# Altium footprint library ROV2019V2.0。0.PcbLib: 24 footprints (part 1 of 2)
Each footprint in its own frame and in the unit in brackets; x right, y up, seen from the top. Pads: shape width x height; smd on the part's side, far side on the other; paste and mask are expansions set on the pad; w line width, h text height; cw(c..) or ccw(c..) is an arc to the next point about the centre after c.
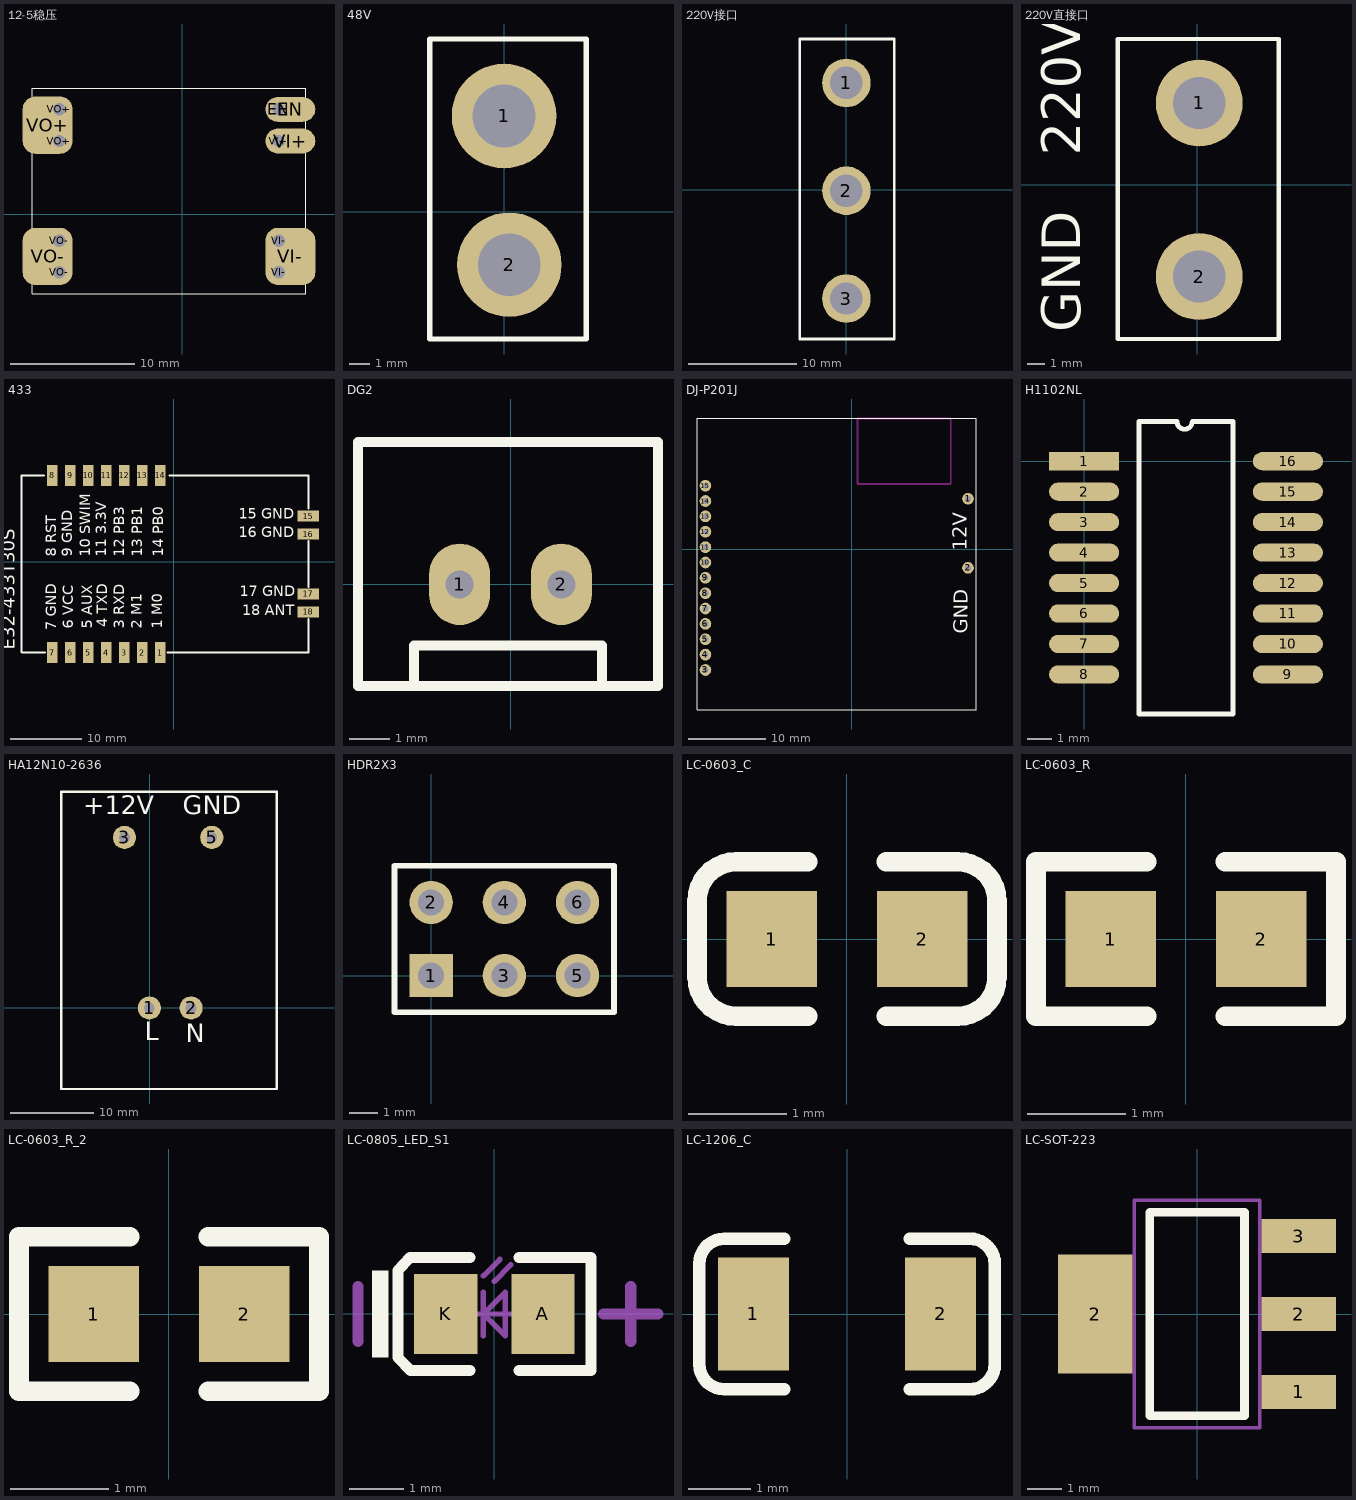
[diagram p0: the footprints below, top view; thin cyan lines are the x and y axes]

## 12-5稳压 [mm]
pads (13):
  round 2 hole 1: EN(7.75,8.44) VI+(7.75,5.9) VI-(7.75,-4.64) VI-(7.75,-2.1) VO+(-9.85,5.9) VO+(-9.85,8.44) VO-(-9.85,-4.64) VO-(-9.85,-2.1)
  oval 4x2 smd: EN(8.7,8.44) VI+(8.7,5.9)
  rrect50% 4x4.6 smd: VI-(8.7,-3.37) VO+(-10.8,7.17) VO-(-10.8,-3.37)
Top Overlay:
  lines w0.1: -12.05,-6.35 -12.05,10.15 9.95,10.15 9.95,-6.35 -12.05,-6.35

## 48V [mm]
pads (2):
  round 5 hole 3: 1(0,4.572) 2(0.254,-2.54)
Top Overlay:
  lines w0.254: -3.556,-6.096 -3.556,8.255 3.937,8.255 3.937,-6.096 -3.556,-6.096

## 220V接口 [mm]
pads (3):
  round 4.5 hole 3: 1(0,9.906) 2(0,-0.094) 3(0,-10.094)
Top Overlay:
  lines w0.254: -4.318,11.938 -4.318,13.97 4.445,13.97 4.445,-13.843 -4.318,-13.843 -4.318,12.446

## 220V直接口 [mm]
pads (2):
  round 5 hole 3: 1(0.127,4.699) 2(0.127,-5.301)
Top Overlay:
  lines w0.254: -4.572,-8.89 -4.572,8.382 4.699,8.382 4.699,-8.89 -4.572,-8.89
  text "220V" at -5.969,1.651 h3.81
  text "GND" at -5.969,-8.509 h3.81

## 433 [mm]
pads (18):
  rect 1.5x3 smd: 1(-1.905,-12.793) 2(-4.445,-12.793) 3(-6.985,-12.793) 4(-9.525,-12.793) 5(-12.065,-12.793) 6(-14.605,-12.793) 7(-17.145,-12.793) 8(-17.145,12.207) 9(-14.605,12.207) 10(-12.065,12.207) 11(-9.525,12.207) 12(-6.985,12.207) 13(-4.445,12.207) 14(-1.905,12.207)
  rect 3x1.5 smd: 15(18.975,6.477) 16(18.975,3.937) 17(18.975,-4.523) 18(18.975,-7.063)
Top Overlay:
  lines w0.254: -18.325,12.207 -21.5,12.207 -21.5,-12.718 -21.425,-12.793 -18.175,-12.793 ; -0.9,-12.793 18.95,-12.793 18.975,-12.768 18.975,-8.043 ; -0.6,12.207 18.95,12.207 18.975,12.182 18.975,7.507 ; 18.975,-3.543 18.975,2.957
  text "E32-433T30S" at -21.844,-12.407 h3.17
  text "14 PB0" at -1.016,0.762 h2.54
  text "13 PB1" at -3.937,0.762 h2.54
  text "12 PB3" at -6.477,0.762 h2.54
  text "11 3.3V" at -9.017,0.762 h2.54
  text "10 SWIM" at -11.303,0.762 h2.54
  text "9 GND" at -13.843,0.762 h2.54
  text "8 RST" at -16.129,0.762 h2.54
  text "6 VCC" at -13.716,-9.455 h2.54
  text "5 AUX" at -11.049,-9.394 h2.54
  text "4 TXD" at -8.89,-9.231 h2.54
  text "3 RXD" at -6.477,-9.412 h2.54
  text "2 M1" at -4.064,-9.415 h2.54
  text "1 M0" at -1.143,-9.412 h2.54
  text "18 ANT" at 9.652,-8.043 h2.54
  text "17 GND" at 9.271,-5.334 h2.54
  text "16 GND" at 9.144,2.957 h2.54
  text "15 GND" at 9.144,5.588 h2.54
  text "7 GND" at -16.129,-9.652 h2.54

## DG2 [mil]
pads (2):
  oval 60x80 hole 27.56: 1(-50,0) 2(50,0)
Top Overlay:
  lines w10: -95,-100 -95,-60 90,-60 90,-100 ; -150,-100 145,-100 145,140 -150,140 -150,20 -150,-100

## DJ-P201J [mil]
pads (15):
  round 60 hole 30: 1(596.69,259.68) 2(596.69,-94.65) 3(-749.76,-618.28) 4(-749.76,-539.54) 5(-749.76,-460.8) 6(-749.76,-382.06) 7(-749.76,-303.31) 8(-749.76,-224.57) 9(-749.76,-145.83) 10(-749.76,-67.09) 11(-749.76,11.65) 12(-749.76,90.39) 13(-749.76,169.13) 14(-749.76,247.87) 15(-749.76,326.61)
Top Overlay:
  lines w1: -793.07,-823 -793.07,673.06 640,673.06 640,-823 -793.07,-823
  text "GND" at 620.24,-433.39 h125
  text "12V" at 615.24,-6.82 h125
Keep-Out Layer:
  lines w10: 30,334.27 508,334.27 508,671 469,671 30,671 30,334.27

## H1102NL [mm]
pads (16):
  rect 2.92x0.76 smd: 1(0,0)
  oval 2.92x0.76 smd: 2(0,-1.27) 3(0,-2.54) 4(0,-3.81) 5(0,-5.08) 6(0,-6.35) 7(0,-7.62) 8(0,-8.89) 9(8.5,-8.89) 10(8.5,-7.62) 11(8.5,-6.35) 12(8.5,-5.08) 13(8.5,-3.81) 14(8.5,-2.54) 15(8.5,-1.27) 16(8.5,0)
Top Overlay:
  lines w0.2: 2.295,-10.541 2.295,1.651 3.873,1.651 ccw(c4.191,1.651) 4.508,1.651 6.205,1.651 6.205,-10.541 2.295,-10.541

## HA12N10-2636 [mil]
pads (4):
  round 110 hole 50: 1(-2.58,-1.54) 2(194.27,-1.54) 3(-120.69,805.54) 5(292.69,805.54)
Top Overlay:
  lines w10: -420,-385 600,-385 600,1022.08 -420,1022.08 -420,-385
  text "L" at -25,-185 h150
  text "N" at 170,-195 h150
  text "+12V" at -315,885 h150
  text "GND" at 155,885 h150

## HDR2X3 [mm]
pads (6):
  rect 1.5x1.5 hole 0.9: 1(0,0)
  round 1.5 hole 0.9: 2(0,2.54) 3(2.54,0) 4(2.54,2.54) 5(5.08,0) 6(5.08,2.54)
Top Overlay:
  lines w0.2: 1.482,-1.27 6.35,-1.27 ; 6.35,-1.27 -1.27,-1.27 -1.27,3.81 6.35,3.81 6.35,-1.27

## LC-0603_C [mm]
pads (2):
  rect 0.93x0.98 smd: 1(-0.77,0) 2(0.77,0)
Top Overlay:
  lines w0.2: -0.4,-0.79 -1.135,-0.79 cw(c-1.135,-0.39) -1.535,-0.39 -1.535,0.39 cw(c-1.135,0.39) -1.135,0.79 -0.4,0.79 ; 0.4,-0.79 1.135,-0.79 ccw(c1.135,-0.39) 1.535,-0.39 1.535,0.39 ccw(c1.135,0.39) 1.135,0.79 0.4,0.79
3D body "User Library-0603 SMD Capacitor.STEP": height 0.3, standoff 0, extent -0.8,-0.4 0.8,0.4

## LC-0603_R [mm]
pads (2):
  rect 0.93x0.98 smd: 1(-0.77,0) 2(0.77,0)
Top Overlay:
  lines w0.2: -0.4,-0.79 -1.535,-0.79 -1.535,0.79 -0.4,0.79 ; 0.4,-0.79 1.535,-0.79 1.535,0.79 0.4,0.79
3D body "User Library-RES_1609-0603.STEP": height 0.56, standoff 0, extent -0.85,-0.4 0.85,0.4

## LC-0603_R_2 [mm]
pads (2):
  rect 0.93x0.98 smd: 1(-0.77,0) 2(0.77,0)
Top Overlay:
  lines w0.2: -0.4,-0.79 -1.535,-0.79 -1.535,0.79 -0.4,0.79 ; 0.4,-0.79 1.535,-0.79 1.535,0.79 0.4,0.79
3D body "User Library-RES_1609-0603.STEP": height 0.56, standoff 0, extent -0.85,-0.4 0.85,0.4

## LC-0805_LED_S1 [mm]
pads (2):
  rect 1.16x1.47 smd: A(0.89,0) K(-0.89,0)
Top Overlay:
  rectangle: -2.245,-0.8 -1.945,0.8
  lines w0.2: -0.45,-1.035 -1.535,-1.035 -1.77,-0.8 -1.77,0.8 -1.55,1.035 -0.45,1.035 ; 0.45,-1.035 1.77,-1.035 1.77,1.035 0.45,1.035
Mechanical 13:
  lines w0.1: -0.4,0 0.4,0 ; -0.2,-0.4 -0.2,0.4 ; -0.2,0.7 0.1,1 ; 0,0.6 0.3,0.9 ; -0.2,0 0.2,-0.4 0.2,0.4 -0.2,0
Mechanical 15:
  lines w0.203: -2.5,-0.5 -2.5,0.5 ; 2,0 3,0 ; 2.5,-0.5 2.5,0.5
3D body "User Library-led_0805.step": height 1.1, standoff 0, extent -1.01,-0.625 1.01,0.625

## LC-1206_C [mm]
pads (2):
  rect 1.13x1.8 smd: 1(-1.49,0) 2(1.49,0)
Top Overlay:
  lines w0.2: -1,-1.2 -1.955,-1.2 cw(c-1.955,-0.8) -2.355,-0.8 -2.355,0.8 cw(c-1.955,0.8) -1.955,1.2 -1,1.2 ; 1,-1.2 1.955,-1.2 ccw(c1.955,-0.8) 2.355,-0.8 2.355,0.8 ccw(c1.955,0.8) 1.955,1.2 1,1.2
3D body "C1206.STEP": height 1, standoff 0, extent -1.602,-0.813 1.598,0.787

## LC-SOT-223 [mm]
pads (4):
  rect 2.2x1 smd: 1(3,-2.3) 2(3,0) 3(3,2.3)
  rect 2.2x3.5 smd: 2(-3,0)
Top Overlay:
  lines w0.254: -1.4,-3 -1.4,3 1.4,3 1.4,-3 -1.4,-3
Mechanical 13:
  lines w0.1: -1.85,-3.35 1.85,-3.35 1.85,3.35 -1.85,3.35 -1.85,-3.35
3D body "TO-223.STEP": height 1.64, standoff -0.04, extent -3.49,-3.242 3.49,3.243